# EAGLE library part WS5500_SPI (library ehajo)
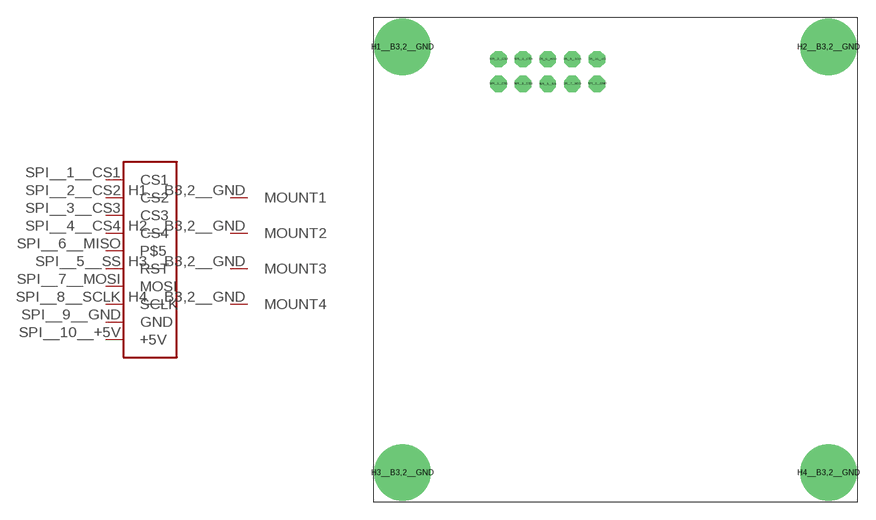
[diagram p2: symbol with the pads of W5500_SPI; footprint W5500_SPI]

Designator prefix -; gates G$1=WS5500_MOUNT G$2=WS5500_SPI

## WS5500_SPI  [W5500_SPI]
H1__B3,2__GND  G$1:MOUNT1  pas
H2__B3,2__GND  G$1:MOUNT2  pas
H3__B3,2__GND  G$1:MOUNT3  pas
H4__B3,2__GND  G$1:MOUNT4  pas
SPI__1__CS1  G$2:CS1  in
SPI__2__CS2  G$2:CS2  in
SPI__3__CS3  G$2:CS3  oc
SPI__4__CS4  G$2:CS4  in
SPI__5__SS  G$2:RST  in
SPI__6__MISO  G$2:P$5  in
SPI__7__MOSI  G$2:MOSI  out
SPI__8__SCLK  G$2:SCLK  out
SPI__9__GND  G$2:GND  pwr
SPI__10__+5V  G$2:+5V  pwr

## Footprint W5500_SPI (pad centres in mm)
drill 2.601 pad 4.748: H1__B3,2__GND 2.438,38.202; H2__B3,2__GND 38.202,38.202; H3__B3,2__GND 2.438,2.438; H4__B3,2__GND 38.202,2.438
drill 0.743 pad 1.363 octagon: SPI__1__CS1 10.501,35.097; SPI__2__CS2 10.501,37.161; SPI__3__CS3 12.566,35.097; SPI__4__CS4 12.566,37.161; SPI__5__SS 14.63,35.097; SPI__6__MISO 14.63,37.161; SPI__7__MOSI 16.695,35.097; SPI__8__SCLK 16.695,37.161; SPI__9__GND 18.759,35.097; SPI__10__+5V 18.759,37.161